# Altium schematic symbol library Passives.SchLib: 279 symbols (part 1 of 10)
Pins are listed as number, name and electrical type; pins without a type are passive.

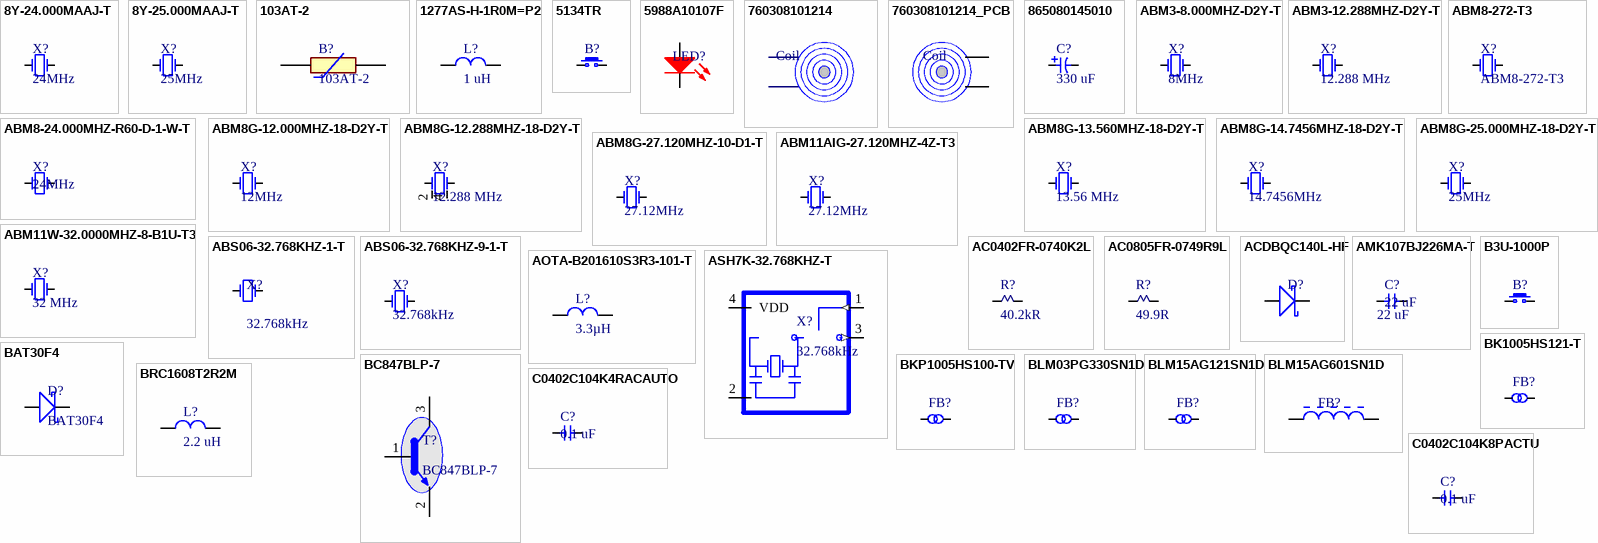
[diagram p0: symbols 8Y-24.000MAAJ-T to C0402C104K8PACTU]

## 8Y-24.000MAAJ-T
designator X?, comment 24MHz
CRYSTAL 24.0000MHZ 18PF SMD; Manufacturer: TXC CORPORATION; Manufacturer Part Number: 8Y-24.000MAAJ-T; Frequency Stability: ±30ppm; ESR (Equivalent Series Resistance): 100 Ohm; Operating Mode: Fundamental; Supplier 1: Digi-Key; RoHS: RoHS Compliant; Category: Crystals, Oscillators, Resonators; Stock 1: 5780; Pricing 1: 1=1.24, 10=1.183, 50=1.155, 100=0.99, 500=0.9625, 1000=0.81125 (USD); Packaging: Digi-Reel®; Part Status: Active; Type: MHz Crystal; Frequency: 24MHz; Frequency Tolerance: ±30ppm; Load Capacitance: 18pF; Operating Temperature: -20°C ~ 70°C; Ratings: -; Mounting Type: Surface Mount; Package / Case: 4-SMD, No Lead; Size / Dimension: 0.079" L x 0.063" W (2.00mm x 1.60mm); Height - Seated (Max): 0.022" (0.55mm); ComponentLink1URL: http://www.txccrystal.com/images/pdf/8y.pdf; ComponentLink1Description: http://www.txccrystal.com/images/pdf/8y.pdf; Supplier Part Number 1: 887-1151-6-ND
footprint LCCS140P200X160X55-4N (LCC, 4-Pins, Body 2.00x1.60mmx0.55mm, Pitch 1.40mm, IPC Medium Density)
pins: 1 OSC1, 2 hidden to GND, 3 OSC2, 4 hidden to GND

## 8Y-25.000MAAJ-T
designator X?, comment 25MHz
CRYSTAL 25MHZ 18PF SMD; Manufacturer: TXC CORPORATION; Manufacturer Part Number: 8Y-25.000MAAJ-T; Frequency Stability: ±30ppm; ESR (Equivalent Series Resistance): 100 Ohm; Operating Mode: Fundamental; Supplier 1: Digi-Key; RoHS: RoHS Compliant; Category: Crystals and Oscillators; Stock 1: 5107; Pricing 1: 1=1.23, 10=1.177, 50=1.1506, 100=0.9839, 500=0.95788, 1000=0.80692 (EUR); Packaging: Cut Tape (CT); Type: MHz Crystal; Frequency: 25MHz; Frequency Tolerance: ±30ppm; Load Capacitance: 18pF; Operating Temperature: -20°C ~ 70°C; Ratings: -; Mounting Type: Surface Mount; Package / Case: 4-SMD, No Lead (DFN, LCC); Size / Dimension: 0.079" L x 0.063" W (2.00mm x 1.60mm); Height: 0.020" (0.50mm); ComponentLink1URL: http://www.txccrystal.com/images/pdf/8y.pdf; ComponentLink1Description: http://www.txccrystal.com/images/pdf/8y.pdf; Supplier Part Number 1: 887-1479-1-ND; Value: 25 MHz
footprint LCCS140P200X160X55-4N (LCC, 4-Pins, Body 2.00x1.60mmx0.55mm, Pitch 1.40mm, IPC Medium Density)
pins: 1 OSC1, 2 GND (power) hidden to GND, 3 OSC2, 4 GND (power) hidden to GND

## 103AT-2
designator B?
Thermistor NTC 10KOhm 1% 2-Pin; Manufacturer: Semitec; Value: 10k; Supplier: Mouser; Supplier Part Number: 954-103AT-2; Manufacturer Part Number: 103AT-2; RoHS: Yes; Category: Thermistors; Stock: 5290; Pricing: 1=0.86, 10=0.64, 50=0.64, 100=0.463, 1000=0.352, 10000=0.312 (USD); Case/Package: 72Case; Pins: 2; Min Operating Temperature: -50°C; Max Operating Temperature: 110°C; Packaging: Bulk; Tolerance: 1%; Termination: Radial; Series: AT; Length: 17mm; Width: 3.7mm; Height: 2.4mm; Lead Pitch: 2.54mm; RoHS Compliant: Yes; ComponentLink1URL: https://datasheet.ciiva.com/4505/semitec-atthermistor-371460-4505142.pdf?src-supplier=Mouser; ComponentLink1Description: https://datasheet.ciiva.com/4505/semitec-atthermistor-371460-4505142.pdf?src-supplier=Mouser; Supplier 1: Mouser; Supplier Part Number 1: 954-103AT-2; Supplier 2: Digikey; Supplier Part Number 2: 4316-103AT-2-ND
footprint 103AT2
pins: 1, 2

## 1277AS-H-1R0M=P2
designator L?, comment 1 uH
FIXED IND 1UH 3.1A 45 MOHM SMD; Manufacturer: Murata; Manufacturer Part Number: 1277AS-H-1R0M=P2; Lead Free: Lead Free; Pricing 1: 1=0.45, 10=0.392, 100=0.2803, 500=0.23548, 1000=0.19062 (USD); Stock 1: 79201; Supplier 1: Digi-Key; Supplier Part Number 1: 490-10590-6-ND; Value: 1 uH
footprint INDC3225X12N (Footprint not found)
pins: 1, 2

## 5134TR
designator B?  (value not drawn)
SWITCH TACTILE SPST-NO 12MA 24V; Manufacturer: Keystone Electronics; Switch Function: Off-Mom; Contact Rating @ Voltage: 0.012A @ 24VDC; Actuator Type: Snap Dome; Actuator Height off PCB, Vertical: 0.50mm; Actuator Orientation: Top Actuated; Outline: 7.00mm x 7.00mm; Illumination: Non-Illuminated; Operating Force: 280gf; Supplier 1: Digi-Key; Manufacturer Part Number: 5134TR; RoHS: RoHS Compliant; Category: Switches; Stock: 14043; Pricing: 1=0.34, 10=0.323, 25=0.2772, 50=0.2356, 100=0.2264, 250=0.20328, 500=0.19404, 1000=0.1617 (USD); Packaging: Digi-Reel®; Part Status: Active; Circuit: SPST-NO; Mounting Type: Surface Mount; Actuator Length, Right Angle: -; Termination Style: SMD (SMT) Tab; Illumination Type, Color: -; Illumination Voltage (Nominal): -; Ingress Protection: -; Features: Flex Membrane; Actuator Material: -; Switch Travel: -; Mechanical Life: -; Operating Temperature: -40°C ~ 105°C; ComponentLink1URL: http://www.keyelco.com/product-pdf.cfm?p=14314; ComponentLink1Description: http://www.keyelco.com/product-pdf.cfm?p=14314; Supplier Part Number 1: 36-5134DKR-ND
footprint 5134TR
pins: 1, 2

## 5988A10107F
designator LED?  (value not drawn)
LED Uni-Color Red 2-Pin Chip 0402(1006Metric) T/R; Manufacturer: Dialight; Forward Current: 5mA; Forward Voltage: 1.6V; Luminous Intensity: 65mcd; Viewing Angle: 140°; Wavelength: 635nm; Supplier 1: Digikey; Supplier Part Number 1: 350-4446-1-ND; Supplier: Digikey; Supplier Part Number: 350-4446-1-ND; Manufacturer Part Number: 5988A10107F; RoHS: Yes; Category: LEDs; Stock: 71657; Pricing: 1=0.37, 10=0.242, 100=0.1612, 500=0.1115, 1000=0.09292, 2000=0.08363 (USD)
footprint 5988A10107F
pins: 1 K, 2 A

## 760308101214
designator Coil  (value not drawn)
RX 1 COIL 1 LAYER 26UH 1.1A; Manufacturer: Wurth Electronics Inc.; Function: Receiver; Inductance: 26µH; Tolerance: ±10%; DC Resistance (DCR): 520 mOhm Max; Q @ Freq: 25 @ 125kHz; Current - Saturation: 2A; Frequency - Self Resonant: 11MHz; Supplier 1: Digi-Key; Manufacturer Part Number: 760308101214; RoHS: RoHS Compliant; Category: Inductors, Coils, Chokes; Stock: 291; Pricing: 1=7.49, 10=6.932, 48=6.30208, 96=5.72906, 192=5.20802 (USD); Part Status: Active; Type: 1 Coil, 1 Layer; Current Rating: 1.1A; Operating Temperature: -20°C ~ 105°C; Size / Dimension: 0.75" Dia x 0.03" H (19.0mm x 0.8mm); ComponentLink1URL: http://katalog.we-online.de/pbs/datasheet/760308101214.pdf; ComponentLink1Description: http://katalog.we-online.de/pbs/datasheet/760308101214.pdf; Supplier Part Number 1: 732-8240-ND
footprint 760308101214 (Wireless Power Transfer Receiver Coil,  Dia 19mm)

## 760308101214_PCB
designator Coil, comment 760308101214  (value not drawn)
RX 1 COIL 1 LAYER 26UH 1.1A; Manufacturer: Wurth Electronics Inc.; Function: Receiver; Inductance: 26µH; Tolerance: ±10%; DC Resistance (DCR): 520 mOhm Max; Q @ Freq: 25 @ 125kHz; Current - Saturation: 2A; Frequency - Self Resonant: 11MHz; Supplier 1: Digi-Key; Manufacturer Part Number: 760308101214; RoHS: RoHS Compliant; Category: Inductors, Coils, Chokes; Stock: 291; Pricing: 1=7.49, 10=6.932, 48=6.30208, 96=5.72906, 192=5.20802 (USD); Part Status: Active; Type: 1 Coil, 1 Layer; Current Rating: 1.1A; Operating Temperature: -20°C ~ 105°C; Size / Dimension: 0.75" Dia x 0.03" H (19.0mm x 0.8mm); ComponentLink1URL: http://katalog.we-online.de/pbs/datasheet/760308101214.pdf; ComponentLink1Description: http://katalog.we-online.de/pbs/datasheet/760308101214.pdf; Supplier Part Number 1: 732-8240-ND
footprint 760308101214 - pcb (Wireless Power Transfer Receiver Coil,  Dia 19mm)
pins: 1 T1 (power), 2 T2 (power)

## 865080145010
designator C?, comment 330 uF
CAP 330 UF 20% 6.3 V; Manufacturer: Wurth Electronics Inc; Manufacturer Part Number: 865080145010; Capacitance: 330µF; Voltage Rating: 6.3V; Lifetime @ Temp.: 2000 Hrs @ 105°C; Polarization: Polar; Ripple Current: 275mA @ 100kHz; Impedance: 360 mOhm; Surface Mount Land Size: 0.260" L x 0.260" W (6.60mm x 6.60mm); Supplier 1: Digi-Key; Supplier Part Number 1: 732-8475-6-ND; RoHS: RoHS Compliant; Category: Capacitors; Stock 1: 839; Pricing 1: 1=0.37, 50=0.312, 100=0.2717, 250=0.24152 (EUR); Packaging: Digi-Reel®; Part Status: Active; Tolerance: ±20%; ESR (Equivalent Series Resistance): -; Operating Temperature: -55°C ~ 105°C; Applications: General Purpose; Lead Spacing: -; Size / Dimension: 0.248" Dia (6.30mm); Height - Seated (Max): 0.303" (7.70mm); Mounting Type: Surface Mount; Package / Case: Radial, Can - SMD; ComponentLink1URL: http://katalog.we-online.de/pbs/datasheet/865080145010.pdf; ComponentLink1Description: http://katalog.we-online.de/pbs/datasheet/865080145010.pdf; Value: 330 uF
footprint WCAP-ASLI_6.3x7.7 (Polarized capacitors, Aluminum Electrolytic Capacitors, 2-Leads, Body 6.3x7.7x2.2)
pins: 1, 2

## ABM3-8.000MHZ-D2Y-T
designator X?, comment 8MHz
Crystal 8MHz ±20ppm (Tol) ±30ppm (Stability) 18pF FUND 140Ohm 2-Pin Mini-CSMD T/R; Manufacturer: Abracon; Manufacturer Part Number: ABM3-8.000MHZ-D2Y-T; Supplier: Digikey; Supplier Part Number: 535-10630-6-ND; RoHS: Yes; Category: Crystals; Stock: 88762; Pricing: 1=0.57, 10=0.474, 50=0.4264, 100=0.3791, 500=0.36014 (USD); Reach SVHC Compliant: 4187SVHC; Lead Free: 5697LeadFree; ComponentLink1URL: https://datasheet.ciiva.com/862/abm3-862465.pdf?src-supplier=Digikey; ComponentLink1Description: https://datasheet.ciiva.com/862/abm3-862465.pdf?src-supplier=Digikey; Frequency: 8MHz; Supplier 1: Digikey; Supplier Part Number 1: 535-10630-1-ND
footprint ABRACON_ABM3
pins: 1 OSC1, 2 OSC2

## ABM3-12.288MHZ-D2Y-T
designator X?, comment 12.288 MHz
Crystal 12.288MHz ±20ppm (Tol) ±30ppm (Stability) 18pF FUND 60Ohm 2-Pin Mini-CSMD T/R; Manufacturer: Abracon; Manufacturer Part Number: ABM3-12.288MHZ-D2Y-T; Supplier: Digi-Key; Supplier Part Number: 535-10635-1-ND; RoHS: Yes; Category: Crystals; Stock: 77133; Pricing: 1=0,55, 10=0,461, 50=0,4146, 100=0,3686, 500=0,35016 (USD); ComponentLink1URL: https://datasheet.ciiva.com/7998/abm3-7998556.pdf?src-supplier=Element14; ComponentLink1Description: https://datasheet.ciiva.com/7998/abm3-7998556.pdf?src-supplier=Element14; ComponentLink2URL: https://datasheet.ciiva.com/855/abm3-855888.pdf?src-supplier=Digi-Key; ComponentLink2Description: https://datasheet.ciiva.com/855/abm3-855888.pdf?src-supplier=Digi-Key; ComponentLink3URL: https://datasheet.ciiva.com/855/abm3-855889.pdf?src-supplier=Digi-Key; ComponentLink3Description: https://datasheet.ciiva.com/855/abm3-855889.pdf?src-supplier=Digi-Key; ComponentLink4URL: https://datasheet.ciiva.com/855/abm3-855890.pdf?src-supplier=Digi-Key; ComponentLink4Description: https://datasheet.ciiva.com/855/abm3-855890.pdf?src-supplier=Digi-Key; Frequency: 12.288 MHz
pins: 1 OSC1, 3 OSC2

## ABM8-24.000MHZ-R60-D-1-W-T
designator X?, comment 24MHz
CRYSTAL 24.0000MHZ 18PF SMD; Manufacturer: Abracon LLC; Manufacturer Part Number: ABM8-24.000MHZ-R60-D-1-W-T; Frequency Stability: ±25ppm; Frequency Tolerance: ±10ppm; ESR (Equivalent Series Resistance): 60 Ohm; Operating Mode: Fundamental; Supplier 1: Digi-Key; RoHS: RoHS Compliant; Category: Crystals and Oscillators; Stock 1: 21454; Pricing 1: 1=0.8, 10=0.713, 50=0.666, 100=0.5894, 500=0.55702 (GBP); Packaging: Digi-Reel®; Part Status: Active; Type: MHz Crystal; Frequency: 24MHz; Load Capacitance: 18pF; Operating Temperature: -40°C ~ 85°C; Ratings: -; Mounting Type: Surface Mount; Package / Case: 4-SMD, No Lead (DFN, LCC); Size / Dimension: 0.126" L x 0.098" W (3.20mm x 2.50mm); Height: 0.031" (0.80mm); ComponentLink1URL: http://www.abracon.com/Resonators/abm8.pdf; ComponentLink1Description: http://www.abracon.com/Resonators/abm8.pdf; Supplier Part Number 1: 535-10155-6-ND
footprint DFN165P250X80-4N (DFN, 4-Leads, Body 3.20x2.50mm, Pitch 1.65mm, IPC Medium Density)
pins: 1 OSC1, 2 GND (power) hidden to GND, 3 OSC2, 4 GND (power) hidden to GND

## ABM8-272-T3
designator X?
Parallel - Fundamental Quartz Crystal, 12MHz Nom; Manufacturer: Abracon; Frequency Stability: 30ppm; Frequency Tolerance: 0.003%; Load Capacitance: 10pF; ESR: 50Ω; Supplier: DigiKey; Supplier Part Number: 535-ABM8-272-T3CT-ND; Manufacturer Part Number: ABM8-272-T3; RoHS: Compliant; Category: Crystals; Stock: 2593; Pricing: 1=0.54, 10=0.47, 25=0.4444, 50=0.4262, 100=0.4085, 250=0.38632, 500=0.37032, 1000=0.355 (USD); Frequency: 12MHz; Harmonized Tariff Schedule (HTS) Code: 8541.60.00.80; Introduction Date: 2024-01-22; Lifecycle Status: Production; Max Operating Temperature: 85°C; Min Operating Temperature: -40°C; Mounting Technology: Surface Mount; REACH SVHC: Yes; ComponentLink1URL: https://datasheet.octopart.com:443/ABM8-272-T3-Abracon-datasheet-103059652.pdf?src-supplier=Electro+Sonic; ComponentLink1Description: https://datasheet.octopart.com:443/ABM8-272-T3-Abracon-datasheet-103059652.pdf?src-supplier=Electro+Sonic; ComponentLink2URL: http://sigma.octopart.com:80/conflict_mineral_statement/Abracon-company-27.pdf?src-supplier=Compliance+Statements; ComponentLink2Description: http://sigma.octopart.com:80/conflict_mineral_statement/Abracon-company-27.pdf?src-supplier=Compliance+Statements; Supplier 1: DigiKey; Supplier Part Number 1: 535-ABM8-272-T3CT-ND
footprint DFN165P250X80-4N (DFN, 4-Leads, Body 3.20x2.50mm, Pitch 1.65mm, IPC Medium Density)
pins: 1 OSC1, 3 OSC2

## ABM8G-12.000MHZ-18-D2Y-T
designator X?, comment 12MHz
CRYSTAL 12.0000MHZ 18PF SMD; Manufacturer: Abracon LLC; Manufacturer Part Number: ABM8G-12.000MHZ-18-D2Y-T; Frequency Stability: ±30ppm; Frequency Tolerance: ±20ppm; ESR (Equivalent Series Resistance): 120 Ohm; Operating Mode: Fundamental; Supplier 1: Digi-Key; RoHS: RoHS Compliant; Category: Crystals and Oscillators; Stock 1: 43579; Pricing 1: 1=0.54, 10=0.457, 50=0.4102, 100=0.365, 500=0.34762 (GBP); Packaging: Digi-Reel®; Part Status: Active; Type: MHz Crystal; Frequency: 12MHz; Load Capacitance: 18pF; Operating Temperature: -40°C ~ 85°C; Ratings: -; Mounting Type: Surface Mount; Package / Case: 4-SMD, No Lead (DFN, LCC); Size / Dimension: 0.126" L x 0.098" W (3.20mm x 2.50mm); Height: 0.039" (1.00mm); ComponentLink1URL: http://www.abracon.com/Resonators/ABM8G.pdf; ComponentLink1Description: http://www.abracon.com/Resonators/ABM8G.pdf; Supplier Part Number 1: 535-10261-6-ND
footprint FP-ABM8G-MFG
pins: 1 OSC1, 2 GND hidden to GND, 3 OSC2, 4 GND hidden to GND

## ABM8G-12.288MHZ-18-D2Y-T
designator X?, comment 12.288 MHz
Crystal 12.288MHz ±20ppm (Tol) ±30ppm (Stability) 18pF FUND 80Ohm 4-Pin Ultra Mini-CSMD T/R; Manufacturer: Abracon; Manufacturer Part Number: ABM8G-12.288MHZ-18-D2Y-T; Supplier: Future Electronics; Supplier Part Number: 2027929; RoHS: Yes; Category: Crystals; Stock: 6000; Pricing: 1000=0,158, 4000=0,152, 10000=0,149, 25000=0,145, 40000=0,14 (USD); ComponentLink1URL: https://datasheet.ciiva.com/16411/abm8g-16411119.pdf?src-supplier=Future+Electronics; ComponentLink1Description: https://datasheet.ciiva.com/16411/abm8g-16411119.pdf?src-supplier=Future+Electronics; ComponentLink2URL: https://datasheet.ciiva.com/4945/abm8g-10572-4945574.pdf?src-supplier=Mouser; ComponentLink2Description: https://datasheet.ciiva.com/4945/abm8g-10572-4945574.pdf?src-supplier=Mouser; ComponentLink3URL: https://datasheet.ciiva.com/855/abm8g-855821.pdf?src-supplier=Digi-Key; ComponentLink3Description: https://datasheet.ciiva.com/855/abm8g-855821.pdf?src-supplier=Digi-Key; ComponentLink4URL: https://datasheet.ciiva.com/855/abm8g-855822.pdf?src-supplier=Digi-Key; ComponentLink4Description: https://datasheet.ciiva.com/855/abm8g-855822.pdf?src-supplier=Digi-Key; ComponentLink5URL: https://datasheet.ciiva.com/855/abm8g-855823.pdf?src-supplier=Digi-Key; ComponentLink5Description: https://datasheet.ciiva.com/855/abm8g-855823.pdf?src-supplier=Digi-Key; ComponentLink6URL: https://datasheet.ciiva.com/1357/1883677-1357278.pdf?src-supplier=Element14; ComponentLink6Description: https://datasheet.ciiva.com/1357/1883677-1357278.pdf?src-supplier=Element14; Frequency: 12.288 MHz; Supplier 1: Future Electronics; Supplier Part Number 1: 2027929; Supplier 2: Digi-Key; Supplier Part Number 2: 535-ABM8G-12.288MHZ-18-D2Y-T3CT-ND
footprint FP-ABM8G-MFG
pins: 1 OSC1, 2 GND hidden to GND, 3 OSC2, 4 GND hidden to GND

## ABM8G-13.560MHZ-18-D2Y-T
designator X?, comment 13.56 MHz
CRYSTAL 13.5600MHZ 18PF SMD; Manufacturer: Abracon LLC; Manufacturer Part Number: ABM8G-13.560MHZ-18-D2Y-T; Frequency Stability: ±30ppm; Frequency Tolerance: ±20ppm; Operating Mode: Fundamental; Supplier 1: Digi-Key; RoHS: RoHS Compliant; Category: Crystals, Oscillators, Resonators; Stock: 44445; Pricing: 1=0.73, 10=0.605, 50=0.5446, 100=0.484, 500=0.4598 (USD); Packaging: Digi-Reel®; Part Status: Active; Type: MHz Crystal; Load Capacitance: 18pF; Operating Temperature: -40°C ~ 85°C; Ratings: -; Mounting Type: Surface Mount; Package / Case: 4-SMD, No Lead; Size / Dimension: 0.126" L x 0.098" W (3.20mm x 2.50mm); Height - Seated (Max): 0.039" (1.00mm); ComponentLink1URL: https://abracon.com/Resonators/ABM8G.pdf; ComponentLink1Description: https://abracon.com/Resonators/ABM8G.pdf; Supplier Part Number 1: 535-10264-6-ND; Frequency: 13.56 MHz
footprint FP-ABM8G-MFG
pins: 1 OSC1, 2 GND (power) hidden to GND, 3 OSC2, 4 GND (power) hidden to GND

## ABM8G-14.7456MHZ-18-D2Y-T
designator X?, comment 14.7456MHz
CRYSTAL 14.7456MHZ 18PF SMD; Manufacturer: Abracon LLC; Manufacturer Part Number: ABM8G-14.7456MHZ-18-D2Y-T; Frequency Stability: ±30ppm; Frequency Tolerance: ±20ppm; ESR (Equivalent Series Resistance): 80 Ohm; Operating Mode: Fundamental; Supplier 1: Digi-Key; Supplier Part Number 1: 535-10266-6-ND; RoHS: RoHS Compliant; Category: Crystals, Oscillators, Resonators; Stock 1: 2344; Pricing 1: 1=0.59, 10=0.523, 50=0.489, 100=0.4321, 500=0.40936 (EUR); Packaging: Digi-Reel®; Part Status: Active; Type: MHz Crystal; Frequency: 14.7456MHz; Load Capacitance: 18pF; Operating Temperature: -40°C ~ 85°C; Ratings: -; Mounting Type: Surface Mount; Package / Case: 4-SMD, No Lead (DFN, LCC); Size / Dimension: 0.126" L x 0.098" W (3.20mm x 2.50mm); Height - Seated (Max): 0.039" (1.00mm); ComponentLink1URL: http://www.abracon.com/Resonators/ABM8G.pdf; ComponentLink1Description: http://www.abracon.com/Resonators/ABM8G.pdf
footprint FP-ABM8G-MFG
pins: 1 OSC1, 2 GND hidden to GND, 3 OSC2, 4 GND hidden to GND

## ABM8G-25.000MHZ-18-D2Y-T
designator X?, comment 25MHz
CRYSTAL 25.0000MHZ 18PF SMD; Manufacturer: Abracon LLC; Manufacturer Part Number: ABM8G-25.000MHZ-18-D2Y-T; Frequency Stability: ±30ppm; Frequency Tolerance: ±20ppm; ESR (Equivalent Series Resistance): 60 Ohm; Operating Mode: Fundamental; Supplier 1: Digi-Key; RoHS: RoHS Compliant; Category: Crystals and Oscillators; Stock 1: 31368; Pricing 1: 1=0.54, 10=0.457, 50=0.4102, 100=0.365, 500=0.34762 (GBP); Packaging: Digi-Reel®; Part Status: Active; Type: MHz Crystal; Frequency: 25MHz; Load Capacitance: 18pF; Operating Temperature: -40°C ~ 85°C; Ratings: -; Mounting Type: Surface Mount; Package / Case: 4-SMD, No Lead (DFN, LCC); Size / Dimension: 0.126" L x 0.098" W (3.20mm x 2.50mm); Height: 0.039" (1.00mm); ComponentLink1URL: http://www.abracon.com/Resonators/ABM8G.pdf; ComponentLink1Description: http://www.abracon.com/Resonators/ABM8G.pdf; Supplier Part Number 1: 535-10275-6-ND
footprint FP-ABM8G-MFG
pins: 1 OSC1, 2 GND hidden to GND, 3 OSC2, 4 GND hidden to GND

## ABM8G-27.120MHZ-10-D1-T
designator X?, comment 27.12MHz
Res Thick Film 0603 0 Ohm Molded SMD SMD Punched Carrier T/R; Manufacturer: Abracon; Manufacturer Part Number: ABM8G-27.120MHZ-10-D1-T; Value: 0R; Power Rating: 100mW; Voltage Rating: 75V; Tolerance: 0%; Temperature Coefficient: 200ppm/°C; Supplier: Farnell; Supplier Part Number: 4213253; RoHS: No; Category: Crystals; Stock: 1000; Pricing: 1=0,595, 50=0,514, 100=0,466, 250=0,445, 500=0,433, 1000=0,401, 10000=0,382 (EUR); ComponentLink1URL: https://datasheet.octopart.com/ABM8G-27.120MHZ-10-D1-T-Abracon-datasheet-103054282.pdf?src-supplier=Element14; ComponentLink1Description: https://datasheet.octopart.com/ABM8G-27.120MHZ-10-D1-T-Abracon-datasheet-103054282.pdf?src-supplier=Element14; ComponentLink2URL: https://datasheet.octopart.com/ABM8G-27.120MHZ-10-D1-T-Abracon-datasheet-103054282.pdf?src-supplier=Farnell; ComponentLink2Description: https://datasheet.octopart.com/ABM8G-27.120MHZ-10-D1-T-Abracon-datasheet-103054282.pdf?src-supplier=Farnell; ComponentLink3URL: https://abracon.com/Resonators/ABM8G.pdf?src-supplier=Digi-Key; ComponentLink3Description: https://abracon.com/Resonators/ABM8G.pdf?src-supplier=Digi-Key; Supplier 1: Farnell; Supplier Part Number 1: 4213253; Frequency: 27.12MHz; Mounting Technology: Surface Mount; Case/Package: 0603; Contact Plating: Tin; Case Code (Metric): 1608; Case Code (Imperial): 0603; Min Operating Temperature: -55°C; Max Operating Temperature: 155°C; Resistor Type: Thick Film; Packaging: Tape and Reel; Termination: SMD/SMT; Series: ERJ; Package Quantity: 5000; Number of Terminations: 2; Max Power Dissipation: 100mW; Features: Automotive AEC-Q200; Construction: Rectangular; Technology: THICK FILM; Length: 1.6mm; Width: 0.8mm; Height: 0.45mm; Depth: 0.8mm; Ratings: AEC-Q200; Radiation Hardening: No; Reach SVHC Compliant: No; Military Standard: Not; RoHS Compliant: Yes; ComponentLink4URL: https://datasheet.ciiva.com/27055/1935748-27055113.pdf?src-supplier=Jameco; ComponentLink4Description: https://datasheet.ciiva.com/27055/1935748-27055113.pdf?src-supplier=Jameco; ComponentLink5URL: https://datasheet.ciiva.com/11808/0900766b80f806dd-11808207.pdf?src-supplier=Rs; ComponentLink5Description: https://datasheet.ciiva.com/11808/0900766b80f806dd-11808207.pdf?src-supplier=Rs; ComponentLink6URL: https://datasheet.ciiva.com/46377/1678796-46377868.pdf?src-supplier=Element14; ComponentLink6Description: https://datasheet.ciiva.com/46377/1678796-46377868.pdf?src-supplier=Element14; ComponentLink7URL: https://datasheet.ciiva.com/28695/1678796-28695833.pdf?src-supplier=Element14; ComponentLink7Description: https://datasheet.ciiva.com/28695/1678796-28695833.pdf?src-supplier=Element14; ComponentLink8URL: https://datasheet.ciiva.com/16834/aoa0000ce1-16834828.pdf?src-supplier=Future+Electronics; ComponentLink8Description: https://datasheet.ciiva.com/16834/aoa0000ce1-16834828.pdf?src-supplier=Future+Electronics; ComponentLink9URL: https://datasheet.ciiva.com/48532/aoa0000ce1-48532165.pdf?src-supplier=Avnet; ComponentLink9Description: https://datasheet.ciiva.com/48532/aoa0000ce1-48532165.pdf?src-supplier=Avnet; ComponentLink10URL: https://datasheet.ciiva.com/5959/1678796-5959707.pdf?src-supplier=Farnell; ComponentLink10Description: https://datasheet.ciiva.com/5959/1678796-5959707.pdf?src-supplier=Farnell; ComponentLink11URL: https://datasheet.ciiva.com/16758/70255313-16758527.pdf?src-supplier=Allied+Electronics; ComponentLink11Description: https://datasheet.ciiva.com/16758/70255313-16758527.pdf?src-supplier=Allied+Electronics; ComponentLink12URL: https://datasheet.ciiva.com/9198/aoa0000ce1-9198975.pdf?src-supplier=Avnet; ComponentLink12Description: https://datasheet.ciiva.com/9198/aoa0000ce1-9198975.pdf?src-supplier=Avnet; ComponentLink13URL: https://datasheet.ciiva.com/30199/4aoa0000ce1-30199822.pdf?src-supplier=Onlinecomponents.com; ComponentLink13Description: https://datasheet.ciiva.com/30199/4aoa0000ce1-30199822.pdf?src-supplier=Onlinecomponents.com; ComponentLink14URL: https://datasheet.ciiva.com/43460/1678796-43460647.pdf?src-supplier=Farnell; ComponentLink14Description: https://datasheet.ciiva.com/43460/1678796-43460647.pdf?src-supplier=Farnell
footprint FP-ABM8G-MFG
pins: 1 OSC1, 2 GND hidden to GND, 3 OSC2, 4 GND hidden to GND

## ABM11AIG-27.120MHZ-4Z-T3
designator X?, comment 27.12MHz
CRYSTAL 27.120MHZ 10PF SMD; Manufacturer: Abracon LLC; Manufacturer Part Number: ABM11AIG-27.120MHZ-4Z-T3; Frequency Stability: ±50ppm; Frequency Tolerance: ±30ppm; ESR (Equivalent Series Resistance): 100 Ohm; Operating Mode: Fundamental; Supplier 1: Digi-Key; Supplier Part Number 1: 535-13376-6-ND; RoHS: RoHS Compliant; Category: Crystals, Oscillators, Resonators; Stock 1: 2563; Pricing 1: 1=0.7, 10=0.617, 50=0.5762, 100=0.5091, 500=0.48234, 1000=0.40194 (EUR); Packaging: Digi-Reel®; Part Status: Active; Type: MHz Crystal; Frequency: 27.12MHz; Load Capacitance: 10pF; Operating Temperature: -40°C ~ 125°C; Ratings: AEC-Q200; Mounting Type: Surface Mount; Package / Case: 4-SMD, No Lead (DFN, LCC); Size / Dimension: 0.079" L x 0.063" W (2.00mm x 1.60mm); Height - Seated (Max): 0.022" (0.55mm); ComponentLink1URL: http://www.abracon.com/AIGcrystals/ABM11AIG.pdf; ComponentLink1Description: http://www.abracon.com/AIGcrystals/ABM11AIG.pdf
footprint DFN97P160X55-4N (DFN, 4-Leads, Body 2.00x1.60mm, Pitch 0.97mm, IPC Medium Density)
pins: 1 OSC1, 2 GND hidden to GND, 3 OSC2, 4 GND hidden to GND

## ABM11W-32.0000MHZ-8-B1U-T3
designator X?, comment 32 MHz
CRYSTAL 32.0000MHZ 8PF SMD, 2x1.6mm, RoHS; Manufacturer: Abracon; Manufacturer Part Number: ABM11W-32.0000MHZ-8-B1U-T3; Checked: TRUE; Supplier: Digikey; Supplier Part Number: 535-13899-1-ND; RoHS: Yes; Category: Crystals; Stock: 52771; Pricing: 1=0.82, 10=0.709, 50=0.6394, 100=0.6115, 500=0.5517, 1000=0.52788 (USD); ComponentLink1URL: https://abracon.com/Resonators/ABM11W.pdf?src-supplier=Digikey; ComponentLink1Description: https://abracon.com/Resonators/ABM11W.pdf?src-supplier=Digikey; ComponentLink2URL: https://datasheet.octopart.com/ABM11W-32.0000MHZ-8-B1U-T3-Abracon-datasheet-112015802.pdf?src-supplier=Master+Electronics; ComponentLink2Description: https://datasheet.octopart.com/ABM11W-32.0000MHZ-8-B1U-T3-Abracon-datasheet-112015802.pdf?src-supplier=Master+Electronics; Frequency: 32 MHz; Supplier 1: Mouser; Supplier Part Number 1: 815-11W32-8B1UT; Supplier 2: Digikey; Supplier Part Number 2: 535-13899-1-ND; Supplier 3: Digikey; Supplier Part Number 3: 535-13899-6-ND; Supplier 4: Digikey; Supplier Part Number 4: 535-13899-2-ND
footprint FP-ABM11W-MFG
pins: 1 OSC1, 3 OSC2

## ABS06-32.768KHZ-1-T
designator X?, comment 32.768kHz
CRYSTAL 32.768 KHZ 12.5 PF SMD; Manufacturer: Abracon Corporation; Manufacturer Part Number: ABS06-32.768KHZ-1-T; Frequency Tolerance: ±10ppm; Load Capacitance: 12.5pF; ESR (Equivalent Series Resistance): 90 kOhm; Operating Mode: Fundamental; Supplier 1: Digi-Key; RoHS: RoHS Compliant; Category: Crystals and Oscillators; Stock 1: 6467; Pricing 1: 1=2.25, 10=1.952, 50=1.711, 100=1.3508, 500=1.14066, 750=0.99659, 1000=0.90053 (EUR); Packaging: Digi-Reel®; Type: kHz Crystal (Tuning Fork); Frequency: 32.768kHz; Frequency Stability: -; Operating Temperature: -40°C ~ 85°C; Ratings: -; Mounting Type: Surface Mount; Package / Case: 2-SMD; Size / Dimension: 0.079" L x 0.047" W (2.00mm x 1.20mm); Height: 0.024" (0.60mm); ComponentLink1URL: http://www.abracon.com/Resonators/ABS06.pdf; ComponentLink1Description: http://www.abracon.com/Resonators/ABS06.pdf; Supplier Part Number 1: 535-10248-6-ND
footprint Abracon_ABS6_2012X06L (Abracon ABS06 Series, 2-Leads, Body 2.0x1.2mm, IPC High Density)
pins: 1 OSC1, 2 OSC2

## ABS06-32.768KHZ-9-1-T
designator X?, comment 32.768kHz
CRYSTAL 32.7680KHZ 9PF SMD; Manufacturer: Abracon LLC; Manufacturer Part Number: ABS06-32.768KHZ-9-1-T; Frequency Tolerance: ±10ppm; ESR (Equivalent Series Resistance): 90 kOhm; Operating Mode: Fundamental; Supplier 1: Digi-Key; RoHS: RoHS Compliant; Category: Crystals and Oscillators; Stock 1: 23237; Pricing 1: 1=0.91, 10=0.871, 50=0.8518, 100=0.7284, 500=0.70914, 1000=0.59738 (GBP); Packaging: Digi-Reel®; Part Status: Active; Type: kHz Crystal (Tuning Fork); Frequency: 32.768kHz; Frequency Stability: -; Load Capacitance: 9pF; Operating Temperature: -40°C ~ 85°C; Ratings: -; Mounting Type: Surface Mount; Package / Case: 2-SMD; Size / Dimension: 0.079" L x 0.047" W (2.00mm x 1.20mm); Height: 0.024" (0.60mm); ComponentLink1URL: http://www.abracon.com/Resonators/ABS06.pdf; ComponentLink1Description: http://www.abracon.com/Resonators/ABS06.pdf; Supplier Part Number 1: 535-10247-6-ND
footprint Abracon_ABS6_2012X06L (Abracon ABS06 Series, 2-Leads, Body 2.0x1.2mm, IPC High Density)
pins: 1 OSC1, 2 OSC2

## AC0402FR-0740K2L
designator R?, comment 40.2kR
RES SMD 40.2K OHM 1% 1/16W 0402; Manufacturer: Yageo; Manufacturer Part Number: AC0402FR-0740K2L; Max Power Dissipation: 63mW; Temperature Coefficient: 100ppm/°C; Supplier 1: Digi-Key; Supplier Part Number 1: YAG3486CT-ND; RoHS: Yes; Category: Chip SMD Resistors; Stock 1: 27323; Pricing 1: 1=0.10000, 10=0.01900, 100=0.00780, 1000=0.00350, 2500=0.00304, 5000=0.00251 (USD); Mount: Surface Mount; Case/Package: 0402; Case Code (Metric): 1005; Case Code (Imperial): 0402; Min Operating Temperature: -55°C; Max Operating Temperature: 155°C; Packaging: Tape and Reel; Resistance: 40.2kR; Resistor Type: Thick Film; Number of Terminations: 2; Tolerance: 1%; Features: Moisture Resistant,Automotive AEC-Q200; Length: 0.039inch; Width: 0.02inch; Height: 0.015inch; ComponentLink1URL: http://www.yageo.com/NewPortal/yageodocoutput?fileName=/pdf/R-Chip/PYu-AC_51_RoHS_L_6.pdf&src-supplier=Digi-Key; ComponentLink1Description: http://www.yageo.com/NewPortal/yageodocoutput?fileName=/pdf/R-Chip/PYu-AC_51_RoHS_L_6.pdf&src-supplier=Digi-Key
footprint RESC1005X04N (Chip Resistor, 2-Leads, Body 1.00x0.50mm, IPC Medium Density)
pins: 1, 2

## AC0805FR-0749R9L
designator R?, comment 49.9R
Res Thick Film 0805 49.9 Ohm 1% 0.125W(1/8W) ±100ppm/C Epoxy Pad SMD Automotive T/R; Manufacturer: Yageo; Manufacturer Part Number: AC0805FR-0749R9L; Max Power Dissipation: 125mW; Temperature Coefficient: 100ppm/°C; Supplier 1: Digi-Key; Supplier Part Number 1: YAG5376CT-ND; RoHS: Yes; Category: Chip SMD Resistors; Stock 1: 11065; Pricing 1: 1=0.10000, 10=0.04400, 100=0.01790, 1000=0.00806, 2500=0.00699 (USD); Case/Package: 0805; Min Operating Temperature: -55°C; Max Operating Temperature: 155°C; Packaging: Tape and Reel; Resistance: 49.9R; Resistor Type: Thick Film; Number of Terminations: 2; Tolerance: 1%; Features: Moisture Resistant,Automotive AEC-Q200; Length: 0.079inch; Width: 0.049inch; Height: 0.024inch; ComponentLink1URL: http://www.yageo.com/NewPortal/yageodocoutput?fileName=/pdf/R-Chip/PYu-AC_51_RoHS_L_6.pdf&src-supplier=Digi-Key; ComponentLink1Description: http://www.yageo.com/NewPortal/yageodocoutput?fileName=/pdf/R-Chip/PYu-AC_51_RoHS_L_6.pdf&src-supplier=Digi-Key; ComponentLink2URL: http://www.yageo.com/NewPortal/yageodocoutput?fileName=/pdf/R-Chip/PYu-AC_51_RoHS_L_5.pdf&src-supplier=Digi-Key; ComponentLink2Description: http://www.yageo.com/NewPortal/yageodocoutput?fileName=/pdf/R-Chip/PYu-AC_51_RoHS_L_5.pdf&src-supplier=Digi-Key
footprint RESC2013X06N (Chip Resistor, 2-Leads, Body 2.03x1.27mm, IPC Medium Density)
pins: 1, 2

## ACDBQC140L-HF
designator D?  (value not drawn)
Automotive Diode Schottky 40V 1A; Manufacturer: Comchip; Supplier: Mouser; Supplier Part Number: 750-ACDBQC140L-HF; Manufacturer Part Number: ACDBQC140L-HF; RoHS: No; Category: LDO; Stock: 2640; Pricing: 1=0.34, 10=0.179, 50=0.179, 100=0.078, 1000=0.062, 10000=0.04 (USD); Supplier 1: Mouser; Supplier Part Number 1: 750-ACDBQC140L-HF
footprint DIOC1006X01N (Chip Diode, 2-Leads, Body 1.00x0.60mm, IPC Medium Density)
pins: 1 Cathode, 2 Anode

## AMK107BJ226MA-T
designator C?, comment 22 uF
CAP CER 22UF 4V X5R 0603; Manufacturer: Taiyo Yuden; Manufacturer Part Number: AMK107BJ226MA-T; Capacitance: 22µF; Tolerance: ±20%; Supplier 1: Digi-Key; RoHS: RoHS Compliant; Category: Capacitors; Stock 1: 33562; Pricing 1: 1=0.35, 10=0.306, 50=0.1858, 100=0.153, 250=0.1224, 500=0.11148, 1000=0.10055 (GBP); Packaging: Digi-Reel®; Part Status: Active; Voltage - Rated: 4V; Temperature Coefficient: X5R; Mounting Type: Surface Mount, MLCC; Operating Temperature: -55°C ~ 85°C; Applications: General Purpose; Ratings: -; Package / Case: 0603 (1608 Metric); Size / Dimension: 0.063" L x 0.031" W (1.60mm x 0.80mm); Height - Seated (Max): -; Thickness (Max): 0.035" (0.90mm); Lead Spacing: -; Features: -; Lead Style: -; ComponentLink1URL: http://www.yuden.co.jp/productdata/catalog/en/mlcc_all_e.pdf; ComponentLink1Description: http://www.yuden.co.jp/productdata/catalog/en/mlcc_all_e.pdf; Supplier Part Number 1: 587-2085-6-ND; Value: 22 uF
footprint CAPC1610X05N (Chip Capacitor, 2-Leads, Body 1.60x1.00mm, IPC Medium Density)
pins: 1, 2

## AOTA-B201610S3R3-101-T
designator L?, comment 3.3µH
General Purpose Inductor, 3.3uH, 20%, 1 Element, SMD, 0806; Manufacturer: Abracon; Manufacturer Part Number: AOTA-B201610S3R3-101-T; DC Resistance (DCR): 140mΩ; Max Current Rating: 2.1A; Number of Circuits: 1; Self Resonant Frequency: 21MHz; Shielding: Shielded; Test Frequency: 1MHz; Supplier: Future Electronics; Supplier Part Number: AOTA-B201610S3R3-101-T; RoHS: Compliant; Category: Fixed Inductors; Stock: 9000; Pricing: 3000=0.0966, 6000=0.095, 9000=0.094, 12000=0.0933, 15000=0.0911 (USD); Case/Package: 0806; Export Control Classification Number (ECCN) Code: EAR99; Height: 1mm; Harmonized Tariff Schedule (HTS) Code: 8504.50.80.00; Value: 3.3µH; Introduction Date: 2024-09-16; Length: 2mm; Lifecycle Status: Production; Max Operating Temperature: 125°C; Min Operating Temperature: -40°C; Number of Terminals: 2; Tolerance: 20%; Width: 1.6mm; ComponentLink1URL: https://datasheet.octopart.com:443/AOTA-B201610S3R3-101-T-Abracon-datasheet-188850378.pdf?src-supplier=HQonline; ComponentLink1Description: https://datasheet.octopart.com:443/AOTA-B201610S3R3-101-T-Abracon-datasheet-188850378.pdf?src-supplier=HQonline; ComponentLink2URL: http://sigma.octopart.com:80/conflict_mineral_statement/Abracon-company-27.pdf?src-supplier=Compliance+Statements; ComponentLink2Description: http://sigma.octopart.com:80/conflict_mineral_statement/Abracon-company-27.pdf?src-supplier=Compliance+Statements
footprint AOTAB201610S3R3101T
pins: 1, 2

## ASH7K-32.768KHZ-T
designator X?, comment 32.768kHz
OSC XO 32.768KHZ CMOS SMD; Manufacturer: Abracon LLC; Manufacturer Part Number: ASH7K-32.768KHZ-T; Function: Enable/Disable; Voltage - Supply: 3.3V; Frequency Stability: -170ppm, +10ppm; Current - Supply (Max): 0.7µA; Supplier 1: Digi-Key; Supplier Part Number 1: 535-11455-6-ND; RoHS: RoHS Compliant; Category: Crystals and Oscillators; Stock 1: 4752; Pricing 1: 1=2.11, 10=2.014, 50=1.9696, 100=1.6844, 500=1.6398, 1000=1.38136 (EUR); Packaging: Digi-Reel®; Part Status: Active; Type: XO (Standard); Frequency: 32.768kHz; Output: CMOS; Operating Temperature: -40°C ~ 85°C; Ratings: -; Mounting Type: Surface Mount; Size / Dimension: 0.126" L x 0.059" W (3.20mm x 1.50mm); Height: 0.039" (1.00mm); Package / Case: 4-SMD, No Lead (DFN, LCC); Current - Supply (Disable) (Max): -; ComponentLink1URL: http://www.abracon.com/Oscillators/ASH7K.pdf; ComponentLink1Description: http://www.abracon.com/Oscillators/ASH7K.pdf
footprint ABRACON_ASH7K_3215-4N (Length 3.2mm, width 1.5mm, height 1mm, SMD-4)
pins: 1 Vio (in), 2 GND, 3 OUT (out), 4 VDD

## B3U-1000P
designator B?  (value not drawn)
SWITCH TACTILE SPST-NO 0.05A 12V; Manufacturer: Omron Electronics Inc-EMC Div; Switch Function: Off-Mom; Contact Rating @ Voltage: 0.05A @ 12VDC; Actuator Type: Standard; Actuator Height off PCB, from Pins: 1.60mm; Actuator Orientation: Top Actuated; Outline: 3.00mm x 2.50mm; Illumination: Non-Illuminated; Operating Force: 153gf; Ingress Protection: Dust Proof; Switch Travel: 0.15mm; Mechanical Life: 200,000 Cycles; Supplier 1: Digi-Key; Manufacturer Part Number: B3U-1000P; RoHS: RoHS Compliant; Category: Switches; Stock 1: 66079; Pricing 1: 1=0.93, 10=0.898, 25=0.8468, 50=0.745, 100=0.6774, 250=0.64348, 500=0.62656, 1000=0.49108 (GBP); Packaging: Digi-Reel®; Part Status: Active; Circuit: SPST-NO; Mounting Type: Surface Mount; Termination Style: SMD (SMT) Tab; Illumination Voltage (Nominal): -; Illumination Type, Color: -; Features: -; Actuator Material: -; Operating Temperature: -25°C ~ 70°C; ComponentLink1URL: http://www.omron.com/ecb/products/pdf/en-b3u.pdf; ComponentLink1Description: http://www.omron.com/ecb/products/pdf/en-b3u.pdf; Supplier Part Number 1: SW1020DKR-ND
footprint B3U-1000P
pins: 1, 2

## BAT30F4
designator D?
DIODE SCHOTTKY 30V 300MA 0201; Manufacturer: STMicroelectronics; Voltage - Forward (Vf) (Max) @ If: 310mV @ 10mA; Speed: Fast Recovery =< 500ns, > 200mA (Io); Current - Reverse Leakage @ Vr: 50µA @ 30V; Supplier 1: Digi-Key; Manufacturer Part Number: BAT30F4; RoHS: RoHS Compliant; Category: Discrete Semiconductor Products; Stock 1: 13370; Pricing 1: 1=0.29, 10=0.234, 100=0.1242, 500=0.08168, 1000=0.05565 (GBP); Packaging: Digi-Reel®; Part Status: Active; Diode Type: Schottky; Voltage - DC Reverse (Vr) (Max): 30V; Current - Average Rectified (Io): 300mA; Reverse Recovery Time (trr): -; Capacitance @ Vr, F: -; Mounting Type: Surface Mount; Package / Case: 2-XFDFN; Supplier Device Package: 0201; Operating Temperature - Junction: -30°C ~ 85°C; ComponentLink1URL: http://www.st.com/web/en/resource/technical/document/datasheet/DM00104747.pdf; ComponentLink1Description: http://www.st.com/web/en/resource/technical/document/datasheet/DM00104747.pdf; Supplier Part Number 1: 497-15253-6-ND
footprint DFN35P60X32-2N (DFN, 2-Leads, Body 0.30x0.60mm, Pitch 0.35mm, IPC Medium Density)
signal-integrity model Model Name (Model Description)
pins: 1 cathode, 2 ANODE

## BC847BLP-7
designator T?
Small Signal Bipolar Transistor, 0.1A I(C), 45V V(BR)CEO, 1-Element, NPN, Silicon; Manufacturer: Diodes; Supplier: Future Electronics; Supplier Part Number: 9009544; Manufacturer Part Number: BC847BLP-7; RoHS: Yes; Category: BJTs; Stock: 87000; Pricing: 3000=0.0628, 9000=0.0604, 12000=0.0598, 30000=0.0578, 45000=0.0559 (USD); ComponentLink1URL: https://datasheet.ciiva.com/15139/getdatasheetpartid-228420-15139787.pdf?src-supplier=Verical; ComponentLink1Description: https://datasheet.ciiva.com/15139/getdatasheetpartid-228420-15139787.pdf?src-supplier=Verical; ComponentLink2URL: https://datasheet.ciiva.com/973/ds30525-973636.pdf?src-supplier=Digikey; ComponentLink2Description: https://datasheet.ciiva.com/973/ds30525-973636.pdf?src-supplier=Digikey; ComponentLink3URL: https://datasheet.ciiva.com/11197/ds30525-11197649.pdf?src-supplier=Avnet; ComponentLink3Description: https://datasheet.ciiva.com/11197/ds30525-11197649.pdf?src-supplier=Avnet; Supplier 1: Mouser; Supplier Part Number 1: 621-BC847BLP-7; Supplier 2: Digikey; Supplier Part Number 2: BC847BLPDICT-ND
footprint DFN70P100X53-3N (DFN, 3-Leads, Body 0.60x1.00mm, Pitch 0.70mm, IPC Medium Density)
pins: 1 B, 2 E, 3 C

## BK1005HS121-T
designator FB?  (value not drawn)
FERRITE BEAD 120 OHM 0402 1LN; Manufacturer: Taiyo Yuden; Number of Lines: 1; Impedance @ Frequency: 120 Ohm @ 100MHz; Current Rating (Max): 500mA; DC Resistance (DCR) (Max): 200 mOhm; Supplier 1: Digi-Key; Manufacturer Part Number: BK1005HS121-T; RoHS: RoHS Compliant; Category: Filters; Stock 1: 84410; Pricing 1: 1=0.07, 10=0.031, 50=0.0246, 100=0.0222, 250=0.01628, 500=0.01184, 1000=0.01159, 5000=0.00789 (GBP); Packaging: Digi-Reel®; Part Status: Active; Filter Type: -; Ratings: -; Operating Temperature: -55°C ~ 125°C; Package / Case: 0402 (1005 Metric); Mounting Type: Surface Mount; Height (Max): 0.022" (0.55mm); Size / Dimension: 0.039" L x 0.020" W (1.00mm x 0.50mm); ComponentLink1URL: http://ds.yuden.co.jp/TYCOMPAS/ut/detail.do?productNo=BK1005HS121-T&fileName=BK1005HS121-T_SS&mode=specSheetDownload; ComponentLink1Description: http://ds.yuden.co.jp/TYCOMPAS/ut/detail.do?productNo=BK1005HS121-T&fileName=BK1005HS121-T_SS&mode=specSheetDownload; Supplier Part Number 1: 587-1842-6-ND
signal-integrity model Model Name (Model Description)
footprint INDC1005X06N (Chip Inductor, 2-Leads, Body 1.00x0.50mm, IPC Medium Density)
pins: 1, 2

## BKP1005HS100-TV
designator FB?  (value not drawn)
FERRITE BEAD 10 OHM 0402 1LN; Manufacturer: Taiyo Yuden; Filter Type: Power Line; Number of Lines: 1; Impedance @ Frequency: 10 Ohm @ 100MHz; Current Rating (Max): 2A; DC Resistance (DCR) (Max): 30 mOhm; Supplier 1: Digi-Key; Manufacturer Part Number: BKP1005HS100-TV; RoHS: RoHS Compliant; Category: Filters; Stock 1: 10391; Pricing 1: 1=0.09, 10=0.075, 50=0.0482, 100=0.0416, 250=0.03324, 500=0.02992, 1000=0.02494, 5000=0.02328 (GBP); Packaging: Digi-Reel®; Part Status: Active; Ratings: AEC-Q200; Operating Temperature: -55°C ~ 125°C; Package / Case: 0402 (1005 Metric); Mounting Type: Surface Mount; Height (Max): 0.022" (0.55mm); Size / Dimension: 0.039" L x 0.020" W (1.00mm x 0.50mm); ComponentLink1URL: http://ds.yuden.co.jp/TYCOMPAS/ut/detail.do?productNo=BKP1005HS100-TV&fileName=BKP1005HS100-TV_SS&mode=specSheetDownload; ComponentLink1Description: http://ds.yuden.co.jp/TYCOMPAS/ut/detail.do?productNo=BKP1005HS100-TV&fileName=BKP1005HS100-TV_SS&mode=specSheetDownload; Supplier Part Number 1: 587-3953-6-ND
signal-integrity model Model Name (Model Description)
footprint INDC1005X06N (Chip Inductor, 2-Leads, Body 1.00x0.50mm, IPC Medium Density)
pins: 1, 2

## BLM03PG330SN1D
designator FB?  (value not drawn)
FERRITE BEAD 33 OHM 0201 1LN; Manufacturer: Murata Electronics North America; Filter Type: Power Line; Number of Lines: 1; Impedance @ Frequency: 33 Ohm @ 100MHz; Current Rating (Max): 750mA; DC Resistance (DCR) (Max): 90 mOhm; Supplier 1: Digi-Key; Manufacturer Part Number: BLM03PG330SN1D; RoHS: RoHS Compliant; Category: Filters; Stock 1: 50427; Pricing 1: 1=0.11, 10=0.094, 50=0.0604, 100=0.0521, 250=0.04176, 500=0.03756, 1000=0.0313, 5000=0.02921 (GBP); Packaging: Digi-Reel®; Part Status: Active; Ratings: -; Operating Temperature: -55°C ~ 125°C; Package / Case: 0201 (0603 Metric); Mounting Type: Surface Mount; Height (Max): 0.013" (0.33mm); Size / Dimension: 0.024" L x 0.012" W (0.60mm x 0.30mm); ComponentLink1URL: http://search.murata.co.jp/Ceramy/image/img/PDF/ENG/L0110S0100BLM03PG.pdf; ComponentLink1Description: http://search.murata.co.jp/Ceramy/image/img/PDF/ENG/L0110S0100BLM03PG.pdf; Supplier Part Number 1: 490-5175-6-ND
footprint INDC0603X03N (Chip Inductor, 2-Leads, Body 0.60x0.30mm, IPC Medium Density)
signal-integrity model Model Name (Model Description)
pins: 1, 2

## BLM15AG121SN1D
designator FB?  (value not drawn)
Ferrite Beads Multi-Layer 120Ohm 25% 100MHz 550mA 190mOhm DCR 0402 Paper T/R; Manufacturer: Murata; Manufacturer Series: BLM15A; Material: Steel,Ferrite; Number of Lines: 1; ESR: 190mR; Impedance: 120R; Max DC Current: 500mA; DC Resistance-Max: 250mR; Shielding: Unshielded; Supplier: Mouser; Supplier Part Number: 81-BLM15AG121SN1D; Manufacturer Part Number: BLM15AG121SN1D; RoHS: Yes; Category: Ferrite Beads and Chips; Stock: 120691; Pricing: 1=0.1, 10=0.043, 50=0.034, 100=0.031, 1000=0.021, 10000=0.013 (USD); Case/Package: 0402; Pins: 2; Case Code (Metric): 1005; Case Code (Imperial): 0402; Core Material: Ferrite; Terminal Finish: Tin; Min Operating Temperature: -55°C; Max Operating Temperature: 125°C; Packaging: Tape and Reel; Max Current Rating: 550mA; Series: BLM15AG_SN; Tolerance: 25%; Test Frequency: 100MHz; RMS Current (Irms): 550mA; Package Quantity: 1; Termination: SMD/SMT; Number of Circuits: 1; Current Rating: 550mA; DC Resistance (DCR): 190mR; Frequency: 100MHz; DC Current: 500mA; Channels: 1; Length: 1mm; Width: 0.5mm; Height: 0.5mm; Depth: 0.55mm; Radiation Hardening: No; RoHS Compliant: Yes; Reach SVHC Compliant: No; Lead Free: Lead Free; Military Standard: Not; Supplier 1: Mouser; Supplier Part Number 1: 81-BLM15AG121SN1D; Supplier 2: Digikey; Supplier Part Number 2: 490-1005-1-ND; Supplier 3: Digikey; Supplier Part Number 3: 490-1005-6-ND
footprint INDC1005X06N (Chip Inductor, 2-Leads, Body 1.00x0.50mm, IPC Medium Density)
pins: 1, 2

## BLM15AG601SN1D
designator FB?  (value not drawn)
FERRITE BEAD 600 OHM 0402 1LN; Manufacturer: Murata; Material: Steel,Ferrite; Max DC Current: 300mA; DC Resistance (DCR): 520mR; Impedance: 600R; Test Frequency: 100MHz; Number of Lines: 1; Tolerance: 25%; Shielding: Unshielded; Supplier 1: Digi-Key; Supplier Part Number 1: 490-1006-1-ND; Manufacturer Part Number: BLM15AG601SN1D; RoHS: Yes; Category: Inductors; Stock 1: 436370; Pricing 1: 1=0.10000, 10=0.07600, 25=0.06960, 50=0.06260, 100=0.04590, 250=0.03336, 500=0.03058, 1000=0.02641, 5000=0.02085 (USD); Case/Package: 0402; Number of Pins: 2; Case Code (Metric): 1005; Case Code (Imperial): 0402; Core Material: Ferrite; Min Operating Temperature: -55°C; Max Operating Temperature: 125°C; Package Quantity: 10000; Packaging: Tape and Reel; Current Rating: 300mA; Termination: SMD/SMT; Max Current Rating: 300mA; Number of Circuits: 1; DC Current: 300mA; Frequency: 100MHz; Length: 1mm; Width: 0.5mm; Height: 0.5mm; Depth: 0.55mm; Radiation Hardening: No; REACH SVHC: No SVHC; Lead Free: Lead Free; Military Standard: Not; ComponentLink1URL: https://datasheet.ciiva.com/11799/0900766b811b5866-11799226.pdf?src-supplier=RSComponents; ComponentLink1Description: https://datasheet.ciiva.com/11799/0900766b811b5866-11799226.pdf?src-supplier=RSComponents; ComponentLink2URL: https://datasheet.ciiva.com/29347/442210-da-01-en-chip-drossel-0402-600r-300ma-1-0x0-5mm-29347879.pdf?src-supplier=Conrad; ComponentLink2Description: https://datasheet.ciiva.com/29347/442210-da-01-en-chip-drossel-0402-600r-300ma-1-0x0-5mm-29347879.pdf?src-supplier=Conrad; ComponentLink3URL: https://datasheet.ciiva.com/41449/001172163-da-01-en-drossel-0402-600r-1-0x0-5mm-10000st-41449450.pdf?src-supplier=Conrad; ComponentLink3Description: https://datasheet.ciiva.com/41449/001172163-da-01-en-drossel-0402-600r-1-0x0-5mm-10000st-41449450.pdf?src-supplier=Conrad; ComponentLink4URL: https://datasheet.ciiva.com/6212/l0110s0100blm15ag-sn-6212565.pdf?src-supplier=Digi-Key; ComponentLink4Description: https://datasheet.ciiva.com/6212/l0110s0100blm15ag-sn-6212565.pdf?src-supplier=Digi-Key; ComponentLink5URL: https://datasheet.ciiva.com/6212/l0110s0100blm15ag-sn-6212519.pdf?src-supplier=Digi-Key; ComponentLink5Description: https://datasheet.ciiva.com/6212/l0110s0100blm15ag-sn-6212519.pdf?src-supplier=Digi-Key; ComponentLink6URL: https://datasheet.ciiva.com/1466/5144-1466744.pdf?src-supplier=Element14; ComponentLink6Description: https://datasheet.ciiva.com/1466/5144-1466744.pdf?src-supplier=Element14; ComponentLink7URL: https://datasheet.ciiva.com/6212/l0110s0100blm15ag-sn-6212520.pdf?src-supplier=Digi-Key; ComponentLink7Description: https://datasheet.ciiva.com/6212/l0110s0100blm15ag-sn-6212520.pdf?src-supplier=Digi-Key; ComponentLink8URL: https://datasheet.ciiva.com/1466/5144-1466745.pdf?src-supplier=Element14; ComponentLink8Description: https://datasheet.ciiva.com/1466/5144-1466745.pdf?src-supplier=Element14; ComponentLink9URL: https://datasheet.ciiva.com/8510/l0110s0100blm15ag-sn-8510909.pdf?src-supplier=Avnet; ComponentLink9Description: https://datasheet.ciiva.com/8510/l0110s0100blm15ag-sn-8510909.pdf?src-supplier=Avnet; ComponentLink10URL: https://datasheet.ciiva.com/14122/blm-series-eng-tds-14122894.pdf?src-supplier=Distrelec; ComponentLink10Description: https://datasheet.ciiva.com/14122/blm-series-eng-tds-14122894.pdf?src-supplier=Distrelec; ComponentLink11URL: https://datasheet.ciiva.com/8084/l0110s0100blm15ag-sn-8084271.pdf?src-supplier=Avnet; ComponentLink11Description: https://datasheet.ciiva.com/8084/l0110s0100blm15ag-sn-8084271.pdf?src-supplier=Avnet
footprint MURA-BLM15-CHIP-2_V (Chip Ferrite Bead, 2-Leads, Body 1x0.5mm)
pins: 1, 2

## BRC1608T2R2M
designator L?, comment 2.2 uH
FIXED IND 2.2UH 280MA 550 MOHM; Manufacturer: Taiyo Yuden; Manufacturer Part Number: BRC1608T2R2M; Type: Wirewound; Inductance: 2.2µH; Tolerance: ±20%; Current - Saturation: 550mA; Shielding: Unshielded; Frequency - Self Resonant: 100MHz; Frequency - Test: 7.96MHz; Supplier 1: Digi-Key; RoHS: RoHS Compliant; Category: Inductors, Coils, Chokes; Stock 1: 7120; Pricing 1: 1=0.36, 10=0.323, 25=0.2824, 50=0.242, 100=0.2218, 250=0.2016, 500=0.1895, 1000=0.14515 (USD); Packaging: Digi-Reel®; Part Status: Active; Material - Core: -; Current Rating: 280mA; DC Resistance (DCR): 550 mOhm; Q @ Freq: -; Ratings: -; Operating Temperature: -40°C ~ 105°C; Mounting Type: Surface Mount; Package / Case: 0603 (1608 Metric); Supplier Device Package: 0603 (1608 Metric); Size / Dimension: 0.063" L x 0.031" W (1.60mm x 0.80mm); Height - Seated (Max): 0.039" (1.00mm); ComponentLink1URL: http://ds.yuden.co.jp/TYCOMPAS/ut/detail.do?productNo=BRC1608T2R2M&fileName=BRC1608T2R2M_SS&mode=specSheetDownload; ComponentLink1Description: http://ds.yuden.co.jp/TYCOMPAS/ut/detail.do?productNo=BRC1608T2R2M&fileName=BRC1608T2R2M_SS&mode=specSheetDownload; Supplier Part Number 1: 587-2062-6-ND; Value: 2.2 uH
footprint INDC1608X10N (Chip Inductor, 2-Leads, Body 1.60x0.80mm, IPC Medium Density)
pins: 1, 2

## C0402C104K4RACAUTO
designator C?, comment 0.1 uF
CAP CER 0.1UF 16V X7R 0402; Manufacturer: Kemet; Manufacturer Part Number: C0402C104K4RACAUTO; Capacitance: 0.10µF; Tolerance: ±10%; Supplier 1: Digi-Key; RoHS: RoHS Compliant; Category: Capacitors; Stock 1: 77616; Pricing 1: 1=0.13, 10=0.093, 50=0.0536, 100=0.0444, 250=0.03736, 500=0.0313, 1000=0.02569, 2500=0.02359, 5000=0.02172 (GBP); Packaging: Digi-Reel®; Part Status: Active; Voltage - Rated: 16V; Temperature Coefficient: X7R; Mounting Type: Surface Mount, MLCC; Operating Temperature: -55°C ~ 125°C; Applications: Automotive; Ratings: AEC-Q200; Package / Case: 0402 (1005 Metric); Size / Dimension: 0.039" L x 0.020" W (1.00mm x 0.50mm); Height - Seated (Max): -; Thickness (Max): 0.022" (0.55mm); Lead Spacing: -; Features: -; Lead Style: -; ComponentLink1URL: http://capacitoredge.kemet.com/capedge2/DataSheet?pn=C0402C104K4RACAUTO; ComponentLink1Description: http://capacitoredge.kemet.com/capedge2/DataSheet?pn=C0402C104K4RACAUTO; Supplier Part Number 1: 399-6828-6-ND; Value: 0.1 uF
footprint CAPC1005X05N (Chip Capacitor, 2-Leads, Body 1.00x0.50mm, IPC Medium Density)
signal-integrity model Model Name (Model Description)
pins: 1, 2